# Altium footprint library PcbLib1.PcbLib: 226 footprints (part 7 of 15)
Each footprint in its own frame and in the unit in brackets; x right, y up, seen from the top. Pads: shape width x height; smd on the part's side, far side on the other; paste and mask are expansions set on the pad; w line width, h text height; cw(c..) or ccw(c..) is an arc to the next point about the centre after c.
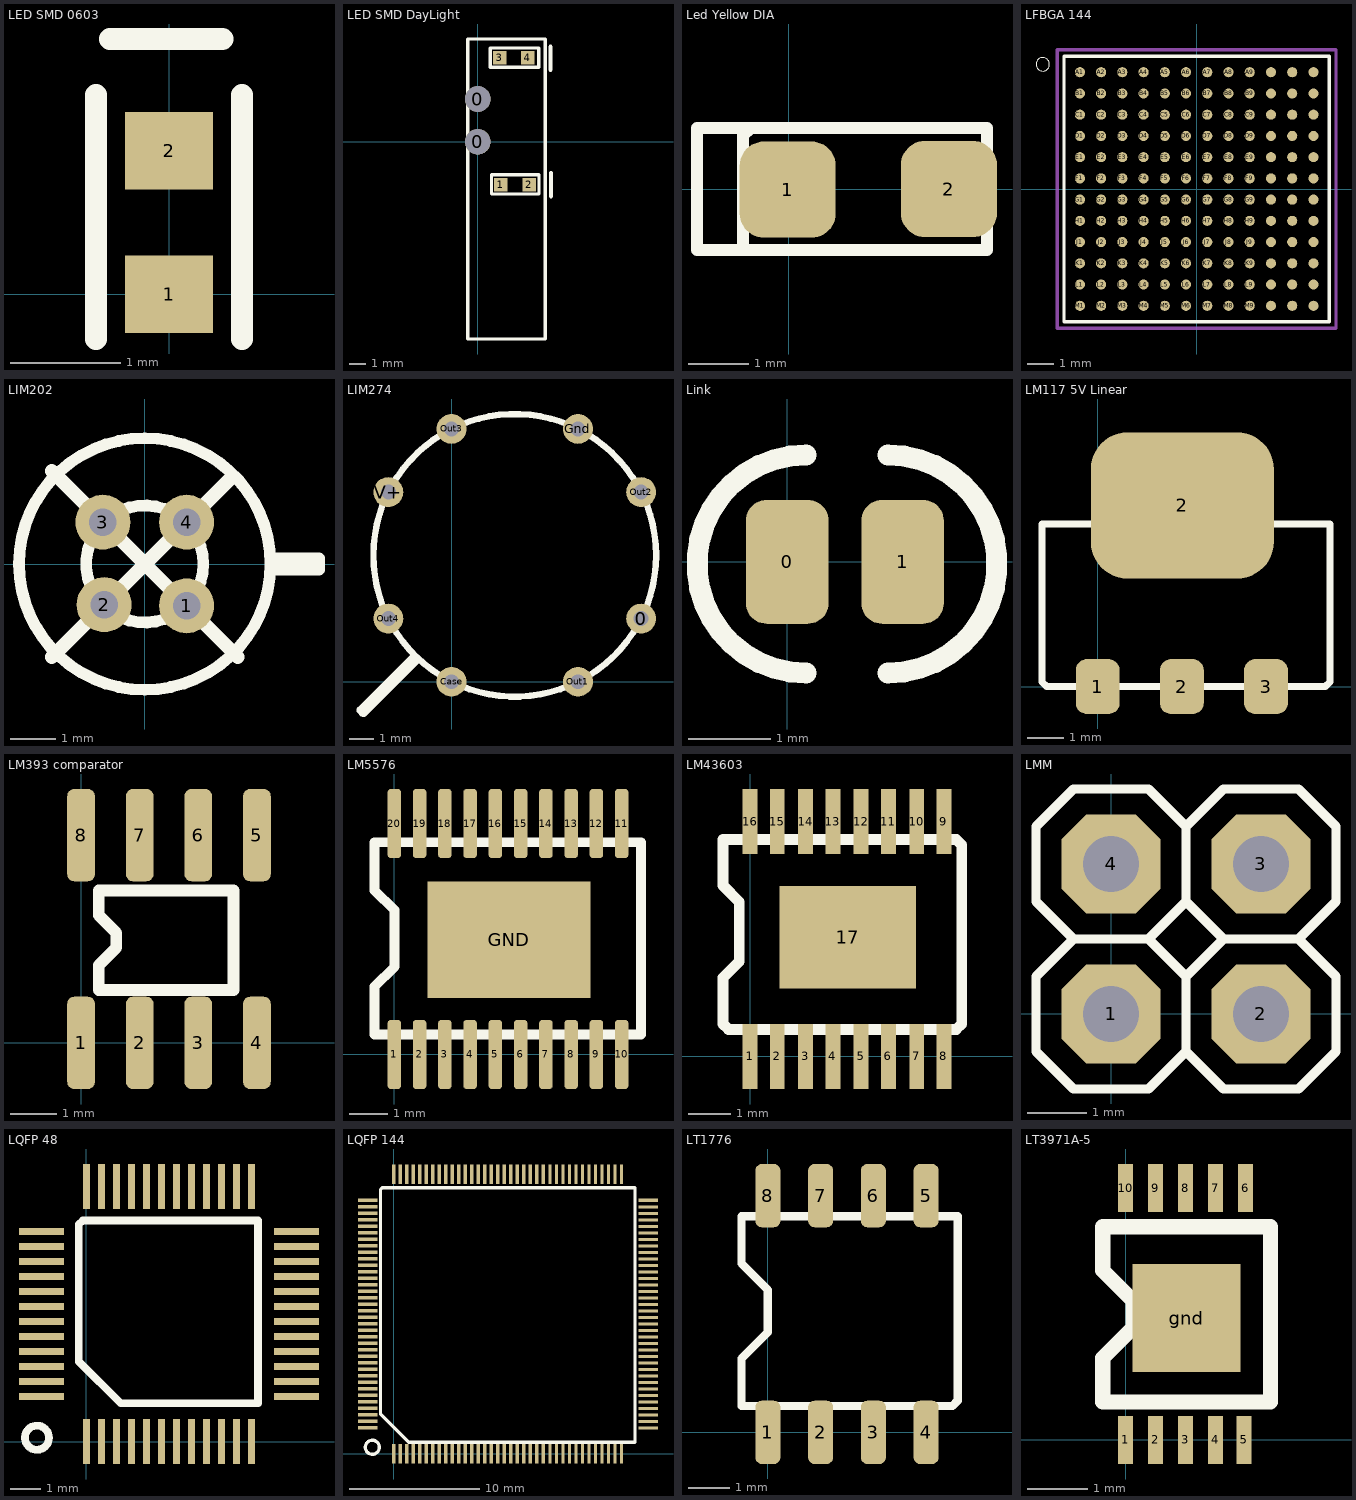
[diagram p6: the footprints below, top view; thin cyan lines are the x and y axes]

## LED SMD 0603 [mm] "LED SMD 0603"
height 1
pads (2):
  rect 0.8x0.7 smd mask+0.102: 1(0,0) 2(0,1.3)
Top Overlay:
  lines w0.2: -0.66,-0.406 -0.66,1.803 ; -0.533,2.311 0.483,2.311 ; 0.66,-0.406 0.66,1.803

## LED SMD DayLight [mm]
pads (6):
  round 1.52 hole 1.52 paste+0 mask+0: 0(0,0) 0(0,2.54)
  rect 0.8x0.8 smd: 1(1.372,-2.54) 2(3.048,-2.54) 3(1.295,4.978) 4(2.972,4.978)
Top Overlay:
  lines w0.2: -0.6,1.905 -0.6,6.1 4,6.1 4,-11.7 -0.6,-11.7 -0.6,2.54 ; 0.737,4.42 0.737,5.563 3.607,5.563 3.607,4.42 0.737,4.42 ; 0.813,-3.099 0.813,-1.956 3.632,-1.956 3.632,-3.099 0.813,-3.099
  lines w0.254: 4.318,4.267 4.318,5.639 ; 4.343,-3.226 4.343,-1.854

## Led Yellow DIA [mm]
pads (2):
  rrect50% 1.6x1.6 smd: 1(-0.016,-0.01) 2(2.667,0)
Top Overlay:
  lines w0.2: -0.762,-1.016 -0.762,0.889 -0.635,1.016 ; -0.762,-1.016 -0.508,-1.016 3.302,-1.016 3.302,1.016 -0.635,1.016 ; -0.762,-1.016 -1.524,-1.016 -1.524,1.016 -0.635,1.016

## LFBGA 144 [mm]
height 1
pads (144):
  round 0.38 smd mask-0.05: A1(-4.4,4.4) A2(-3.6,4.4) A3(-2.8,4.4) A4(-2,4.4) A5(-1.2,4.4) A6(-0.4,4.4) A7(0.4,4.4) A8(1.2,4.4) A9(2,4.4) A10(2.8,4.4) A11(3.6,4.4) A12(4.4,4.4) B1(-4.4,3.6) B2(-3.6,3.6) B3(-2.8,3.6) B4(-2,3.6) B5(-1.2,3.6) B6(-0.4,3.6) B7(0.4,3.6) B8(1.2,3.6) B9(2,3.6) B10(2.8,3.6) B11(3.6,3.6) B12(4.4,3.6) C1(-4.4,2.8) C2(-3.6,2.8) C3(-2.8,2.8) C4(-2,2.8) C5(-1.2,2.8) C6(-0.4,2.8) C7(0.4,2.8) C8(1.2,2.8) C9(2,2.8) C10(2.8,2.8) C11(3.6,2.8) C12(4.4,2.8) D1(-4.4,2) D2(-3.6,2) D3(-2.8,2) D4(-2,2) D5(-1.2,2) D6(-0.4,2) D7(0.4,2) D8(1.2,2) D9(2,2) D10(2.8,2) D11(3.6,2) D12(4.4,2) E1(-4.4,1.2) E2(-3.6,1.2) E3(-2.8,1.2) E4(-2,1.2) E5(-1.2,1.2) E6(-0.4,1.2) E7(0.4,1.2) E8(1.2,1.2) E9(2,1.2) E10(2.8,1.2) E11(3.6,1.2) E12(4.4,1.2) F1(-4.4,0.4) F2(-3.6,0.4) F3(-2.8,0.4) F4(-2,0.4) F5(-1.2,0.4) F6(-0.4,0.4) F7(0.4,0.4) F8(1.2,0.4) F9(2,0.4) F10(2.8,0.4) F11(3.6,0.4) F12(4.4,0.4) G1(-4.4,-0.4) G2(-3.6,-0.4) G3(-2.8,-0.4) G4(-2,-0.4) G5(-1.2,-0.4) G6(-0.4,-0.4) G7(0.4,-0.4) G8(1.2,-0.4) G9(2,-0.4) G10(2.8,-0.4) G11(3.6,-0.4) G12(4.4,-0.4) H1(-4.4,-1.2) H2(-3.6,-1.2) H3(-2.8,-1.2) H4(-2,-1.2) H5(-1.2,-1.2) H6(-0.4,-1.2) H7(0.4,-1.2) H8(1.2,-1.2) H9(2,-1.2) H10(2.8,-1.2) H11(3.6,-1.2) H12(4.4,-1.2) J1(-4.4,-2) J2(-3.6,-2) J3(-2.8,-2) J4(-2,-2) J5(-1.2,-2) J6(-0.4,-2) J7(0.4,-2) J8(1.2,-2) J9(2,-2) J10(2.8,-2) J11(3.6,-2) J12(4.4,-2) K1(-4.4,-2.8) K2(-3.6,-2.8) K3(-2.8,-2.8) K4(-2,-2.8) K5(-1.2,-2.8) K6(-0.4,-2.8) K7(0.4,-2.8) K8(1.2,-2.8) K9(2,-2.8) K10(2.8,-2.8) K11(3.6,-2.8) K12(4.4,-2.8) L1(-4.4,-3.6) L2(-3.6,-3.6) L3(-2.8,-3.6) L4(-2,-3.6) L5(-1.2,-3.6) L6(-0.4,-3.6) L7(0.4,-3.6) L8(1.2,-3.6) L9(2,-3.6) L10(2.8,-3.6) L11(3.6,-3.6) L12(4.4,-3.6) M1(-4.4,-4.4) M2(-3.6,-4.4) M3(-2.8,-4.4) M4(-2,-4.4) M5(-1.2,-4.4) M6(-0.4,-4.4) M7(0.4,-4.4) M8(1.2,-4.4) M9(2,-4.4) M10(2.8,-4.4) M11(3.6,-4.4) M12(4.4,-4.4)
Top Overlay:
  circle w0: c-5.8,4.7 r0.254
  lines w0.127: -5,-5 5,-5 5,5 -5,5 -5,-5
Mechanical 15:
  lines w0.127: -5.25,-5.25 5.25,-5.25 5.25,5.25 -5.25,5.25 -5.25,-5.25

## LIM202 [mm]
height 5
pads (4):
  round 1.2 hole 0.6: 1(0.914,-0.914) 2(-0.889,-0.889) 3(-0.914,0.914) 4(0.914,0.914)
Top Overlay:
  circle w0.254: c0,0 r2.75
  circle w0.254: c0,0 r1.28
  lines w0.254: 2.75,0 2.877,-0.127 3.81,-0.127 3.81,0.127 2.794,0.127
  lines w0.3: -2.032,-2.032 1.905,1.905 ; -2.032,2.032 2.032,-2.032

## LIM274 [mm]
height 5
pads (8):
  round 1.2 hole 0.6: 0(7.62,2.54) Case(0,0) Gnd(5.08,10.16) Out1(5.08,0) Out2(7.62,7.62) Out3(0,10.16) Out4(-2.54,2.54) V+(-2.54,7.62)
Top Overlay:
  circle w0.254: c2.54,5.08 r5.68
  lines w0.254: -1.524,1.067 -1.524,1.041 -3.683,-1.118 -3.683,-1.168 -3.556,-1.295 -3.531,-1.295 -1.321,0.914

## Link [mm]
pads (2):
  rrect50% 1x1.5 smd paste+0 mask+0: 0(0,0) 1(1.397,0)
Top Overlay:
  lines w0.254: 0.229,-1.346 cw(c0.229,-0.025) 0.229,1.295 ; 1.219,-1.346 ccw(c1.219,-0.025) 1.219,1.295

## LM117 5V Linear [mm]
height 1
pads (4):
  rrect50% 1.2x1.5 smd: 1(0,0) 2(2.3,0) 3(4.6,0)
  rrect50% 5x4 smd: 2(2.314,4.95)
Top Overlay:
  lines w0.2: -1.524,0.127 -1.397,0 6.223,0 6.35,0.127 6.35,4.445 4.381,4.445 3.492,5.334 1.333,5.334 0.445,4.445 -1.524,4.445 -1.524,0.127

## LM393 comparator [mm]
pads (8):
  rrect50% 0.6x2 smd paste+0 mask+0: 1(0,0) 2(1.27,0) 3(2.54,0) 4(3.81,0) 5(3.81,4.5) 6(2.54,4.5) 7(1.27,4.5) 8(0,4.5)
Top Overlay:
  lines w0.254: 0.381,1.143 3.302,1.143 3.302,3.302 0.381,3.302 0.381,2.762 0.762,2.381 0.762,2.064 0.381,1.683 0.381,1.143

## LM5576 [mm]
pads (21):
  rrect50% 0.35x1.78 smd: 1(0,0) 2(0.65,0) 3(1.3,0) 4(1.95,0) 5(2.6,0) 6(3.25,0) 7(3.9,0) 8(4.55,0) 9(5.2,0) 10(5.85,0) 11(5.85,5.94) 12(5.2,5.94) 13(4.55,5.94) 14(3.9,5.94) 15(3.25,5.94) 16(2.6,5.94) 17(1.95,5.94) 18(1.3,5.94) 19(0.65,5.94) 20(0,5.94)
  rect 4.2x3 smd: GND(2.952,2.952)
Top Overlay:
  lines w0.254: -0.508,0.508 6.35,0.508 6.35,5.461 -0.508,5.461 -0.508,4.223 0,3.715 0,2.254 -0.508,1.746 -0.508,0.508

## LM43603 [mm]
pads (17):
  rect 0.35x1.524 smd paste+0 mask+0: 1(0,0) 2(0.635,0) 3(1.3,0) 4(1.935,0) 5(2.6,0) 6(3.235,0) 7(3.9,0) 8(4.535,0) 9(4.535,5.5) 10(3.9,5.5) 11(3.235,5.5) 12(2.6,5.5) 13(1.935,5.5) 14(1.3,5.5) 15(0.635,5.5) 16(0,5.5)
  rect 3.2x2.4 smd: 17(2.286,2.794)
Top Overlay:
  lines w0.254: -0.635,0.762 -0.635,1.841 -0.254,2.222 -0.254,3.619 -0.635,4 -0.635,5.08 4.826,5.08 4.953,4.953 4.953,0.762 4.826,0.635 -0.508,0.635 -0.635,0.762

## LMM [mil]
height 157.48
pads (4):
  oct 66x66 hole 37.4: 1(0,0) 2(100,0) 3(100,100) 4(0,100)
Top Overlay:
  rectangle: -10,-10 10,10
  rectangle: -10,90 10,110
  rectangle: 90,90 110,110
  rectangle: 90,-10 110,10
  lines w6: -25,50 -50,75 -50,125 -25,150 25,150 50,125 ; -25,50 25,50 ; -25,50 25,50 ; -25,50 -50,25 -50,-25 -25,-50 25,-50 50,-25 ; 25,50 50,75 ; 25,50 50,25 ; 50,-25 50,25 ; 50,-25 50,25 ; 50,-25 75,-50 125,-50 150,-25 150,25 125,50 ; 50,25 75,50 ; 50,75 50,125 ; 50,75 50,125 ; 50,75 75,50 ; 50,125 75,150 125,150 150,125 150,75 125,50 ; 75,50 125,50 ; 75,50 125,50

## LQFP 48 [mm]
height 1
pads (48):
  rect 0.24x1.5 smd: 1(0,0) 2(0.5,0) 3(1,0) 4(1.5,0) 5(2,0) 6(2.5,0) 7(3,0) 8(3.5,0) 9(4,0) 10(4.5,0) 11(5,0) 12(5.5,0) 25(5.5,8.5) 26(5,8.5) 27(4.5,8.5) 28(4,8.5) 29(3.5,8.5) 30(3,8.5) 31(2.5,8.5) 32(2,8.5) 33(1.5,8.5) 34(1,8.5) 35(0.5,8.5) 36(0,8.5)
  rect 1.5x0.24 smd: 13(7,1.5) 14(7,2) 15(7,2.5) 16(7,3) 17(7,3.5) 18(7,4) 19(7,4.5) 20(7,5) 21(7,5.5) 22(7,6) 23(7,6.5) 24(7,7) 37(-1.5,7) 38(-1.5,6.5) 39(-1.5,6) 40(-1.5,5.5) 41(-1.5,5) 42(-1.5,4.5) 43(-1.5,4) 44(-1.5,3.5) 45(-1.5,3) 46(-1.5,2.5) 47(-1.5,2) 48(-1.5,1.5)
Top Overlay:
  circle w0.254: c-1.651,0.127 r0.402
  lines w0.254: -0.254,2.667 -0.254,7.239 -0.127,7.366 5.715,7.366 5.715,1.27 1.143,1.27 -0.254,2.667

## LQFP 144 [mm]
height 1
pads (144):
  rect 0.254x1.5 smd mask+0.1: 1(0,0) 2(0.5,0) 3(1,0) 4(1.5,0) 5(2,0) 6(2.5,0) 7(3,0) 8(3.5,0) 9(4,0) 10(4.5,0) 11(5,0) 12(5.5,0) 13(6,0) 14(6.5,0) 15(7,0) 16(7.5,0) 17(8,0) 18(8.5,0) 19(9,0) 20(9.5,0) 21(10,0) 22(10.5,0) 23(11,0) 24(11.5,0) 25(12,0) 26(12.5,0) 27(13,0) 28(13.5,0) 29(14,0) 30(14.5,0) 31(15,0) 32(15.5,0) 33(16,0) 34(16.5,0) 35(17,0) 36(17.5,0) 73(17.5,21.5) 74(17,21.5) 75(16.5,21.5) 76(16,21.5) 77(15.5,21.5) 78(15,21.5) 79(14.5,21.5) 80(14,21.5) 81(13.5,21.5) 82(13,21.5) 83(12.5,21.5) 84(12,21.5) 85(11.5,21.5) 86(11,21.5) 87(10.5,21.5) 88(10,21.5) 89(9.5,21.5) 90(9,21.5) 91(8.5,21.5) 92(8,21.5) 93(7.5,21.5) 94(7,21.5) 95(6.5,21.5) 96(6,21.5) 97(5.5,21.5) 98(5,21.5) 99(4.5,21.5) 100(4,21.5) 101(3.5,21.5) 102(3,21.5) 103(2.5,21.5) 104(2,21.5) 105(1.5,21.5) 106(1,21.5) 107(0.5,21.5) 108(0,21.5)
  rect 1.5x0.254 smd mask+0.1: 37(19.558,1.981) 38(19.558,2.481) 39(19.558,2.981) 40(19.558,3.481) 41(19.558,3.981) 42(19.558,4.481) 43(19.558,4.981) 44(19.558,5.481) 45(19.558,5.981) 46(19.558,6.481) 47(19.558,6.981) 48(19.558,7.481) 49(19.558,7.981) 50(19.558,8.481) 51(19.558,8.981) 52(19.558,9.481) 53(19.558,9.981) 54(19.558,10.481) 55(19.558,10.981) 56(19.558,11.481) 57(19.558,11.981) 58(19.558,12.481) 59(19.558,12.981) 60(19.558,13.481) 61(19.558,13.981) 62(19.558,14.481) 63(19.558,14.981) 64(19.558,15.481) 65(19.558,15.981) 66(19.558,16.481) 67(19.558,16.981) 68(19.558,17.481) 69(19.558,17.981) 70(19.558,18.481) 71(19.558,18.981) 72(19.558,19.481) 109(-2,19.5) 110(-2,19) 111(-2,18.5) 112(-2,18) 113(-2,17.5) 114(-2,17) 115(-2,16.5) 116(-2,16) 117(-2,15.5) 118(-2,15) 119(-2,14.5) 120(-2,14) 121(-2,13.5) 122(-2,13) 123(-2,12.5) 124(-2,12) 125(-2,11.5) 126(-2,11) 127(-2,10.5) 128(-2,10) 129(-2,9.5) 130(-2,9) 131(-2,8.5) 132(-2,8) 133(-2,7.5) 134(-2,7) 135(-2,6.5) 136(-2,6) 137(-2,5.5) 138(-2,5) 139(-2,4.5) 140(-2,4) 141(-2,3.5) 142(-2,3) 143(-2,2.5) 144(-2,2)
Top Overlay:
  circle w0.254: c-1.651,0.508 r0.539
  lines w0.254: -1.016,3.048 -1.016,20.32 -0.889,20.447 18.542,20.447 18.542,0.889 1.143,0.889 -1.016,3.048

## LT1776 [mm]
pads (8):
  rrect50% 0.6x1.524 smd: 1(0,0) 2(1.27,0) 3(2.54,0) 4(3.81,0) 5(3.81,5.7) 6(2.54,5.7) 7(1.27,5.7) 8(0,5.7)
Top Overlay:
  lines w0.2: -0.635,0.635 -0.635,1.778 0,2.413 0,3.429 -0.635,4.064 -0.635,5.207 4.572,5.207 4.572,0.762 4.445,0.635 -0.635,0.635

## LT3971A-5 [mm]
pads (11):
  rect 0.25x0.8 smd mask+0.05: 1(0,0) 2(0.5,0) 3(1,0) 4(1.5,0) 5(1.976,0) 6(2,4.2) 7(1.5,4.2) 8(1,4.2) 9(0.5,4.2) 10(0,4.2)
  rect 1.8x1.8 smd: gnd(1.016,2.032)
Top Overlay:
  lines w0.254: -0.381,0.635 2.413,0.635 2.413,3.556 -0.381,3.556 -0.381,2.826 0.127,2.318 0.127,1.873 -0.381,1.365 -0.381,0.635